# EAGLE library part UL1401*2/3/5 (library Audio-Power-amlifier)
Polish CEMI UL1401,UL1402,UL1403,UL1405
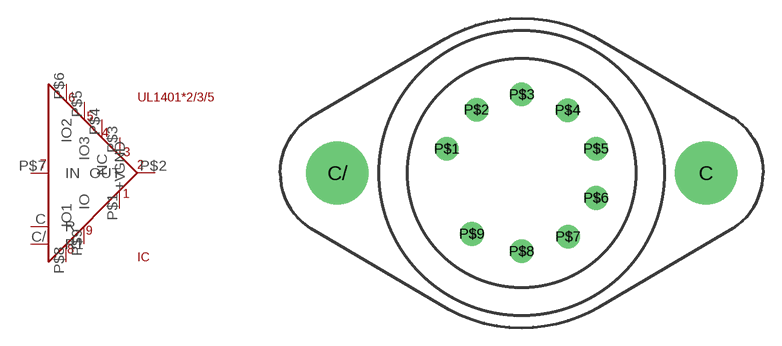
[diagram p22: symbol with the pads of CE-50/TO3; footprint CE-50/TO3]

Designator prefix IC

## UL14012/3/5  [CE-50/TO3]
C  R  pwr
C/  R1  pwr
P$1  GND  pwr
P$2  OUT  out
P$3  +V  pwr
P$4  NC
P$5  IO3
P$6  IO2
P$7  IN  in
P$8  IO1
P$9  IO

## Footprint CE-50/TO3 (pad centres in mm)
TO-3 National Semiconductor K08A
drill 4.115: C 15.113,0; C/ -15.113,0
drill 1 pad 1.93: P$1 -6.14,1.98; P$2 -3.7,5.19; P$3 0.01,6.44; P$4 3.77,5.16; P$5 6.1,1.99; P$6 6.11,-2.05; P$7 3.81,-5.23; P$8 0,-6.43; P$9 -4.08,-5